# Altium schematic symbol library 螺丝孔_1.SCHLIB: 1 symbol
Pins are listed as number, name and electrical type; pins without a type are passive.

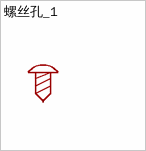
[diagram p0: symbol 螺丝孔_1]

## 螺丝孔_1
designator *?  (value not drawn)
pins: 1